# Altium footprint library PTN78020W.PcbLib: 1 footprints
Each footprint in its own frame and in the unit in brackets; x right, y up, seen from the top. Pads: shape width x height; smd on the part's side, far side on the other; paste and mask are expansions set on the pad; w line width, h text height; cw(c..) or ccw(c..) is an arc to the next point about the centre after c.
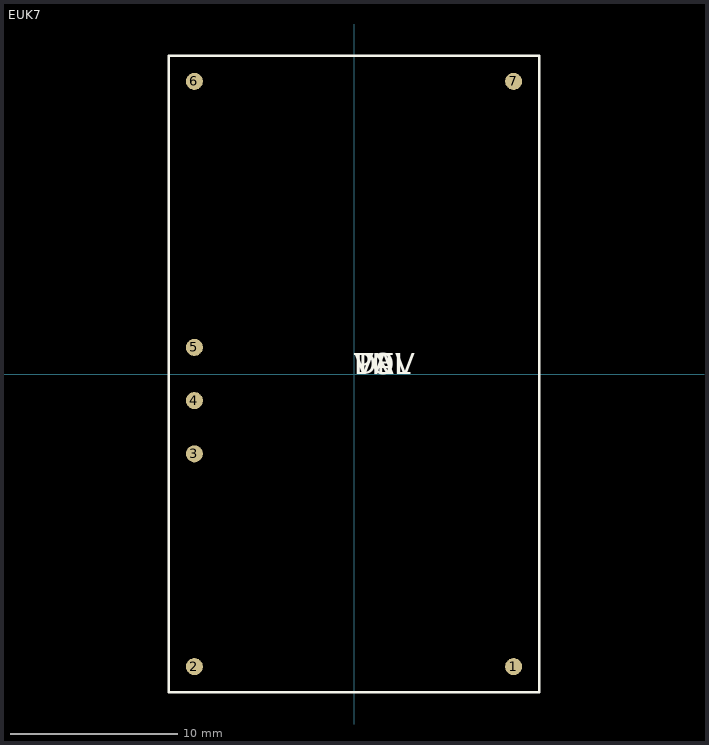
[diagram p0: the footprint, top view; thin cyan lines are the x and y axes]

## EUK7 [mil]
height 393.7
pads (7):
  round 40 smd: 1(375,-687.5) 2(-375,-687.5) 3(-375,-187.5) 4(-375,-62.5) 5(-375,62.5) 6(-375,687.5) 7(375,687.5)
Top Overlay:
  lines w6: -435,-747.5 -435,747.5 435,747.5 435,-747.5 -435,-747.5
  text "TOL" at 0,0 h50
  text "VAL" at 0,0 h50
  text "DEV" at 0,0 h50
  text "PN" at 0,0 h50
3D body: height 393.7, standoff 0, extent -448.82,-759.84 448.82,759.84